# Altium schematic symbol library 1150T HF XFMR.SchLib: 1 symbol
Pins are listed as number, name and electrical type; pins without a type are passive.

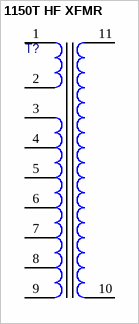
[diagram p0: symbol 1150T HF XFMR]

## 1150T HF XFMR
designator T?, comment 1150THF XFMR  (value not drawn)
pins: 1 *, 2 *, 3 *, 4 *, 5 *, 6 *, 7 *, 8 *, 9 *, 10 *, 11